# EAGLE library part SW-DIP-3 (library Others)
SMD DIP Switch - 3 Ways.
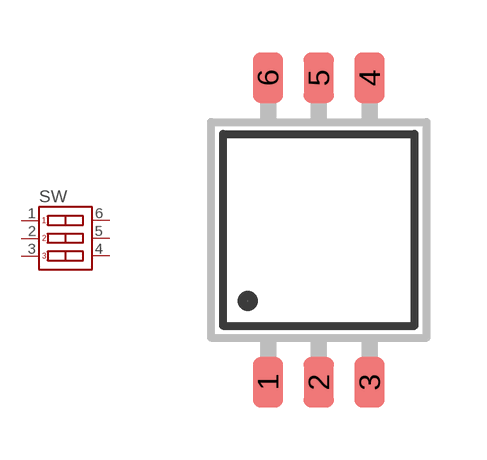
[diagram p9: symbol with the pads of SW-DIP-3-SMD-1.27; footprint SW-DIP-3-SMD-1.27]

Designator prefix SW

## SW-DIP-3_(SMD-1.27MM) (CYTRON-PC: S-SW-DIPS-3-1.27; DESC: S DIP Switch 3-Way 1.27mm Pitch; VALUE: 3 Ways)  [SW-DIP-3-SMD-1.27]
1  P$1
2  P$2
3  P$3
4  P$4
5  P$5
6  P$6

## Footprint SW-DIP-3-SMD-1.27 (pad centres in mm)
smd 0.76 x 1.27: 1 -1.27,-3.81; 2 0,-3.81; 3 1.27,-3.81; 4 1.27,3.81; 5 0,3.81; 6 -1.27,3.81